# Altium schematic symbol library TPS564242DRLR.SchLib: 2 symbols
Pins are listed as number, name and electrical type; pins without a type are passive.

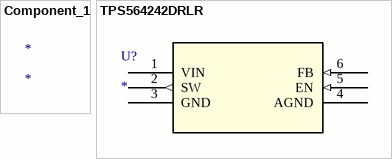
[diagram p0: symbols Component_1 to TPS564242DRLR]

## Component_1
designator *
footprint TPS564242DRLR_TEX

## TPS564242DRLR
designator U?
IC, Buck DC/DC, 4A, PDSO6; Mfr_Name: Texas Instruments; RefDes: RefDes; Type: Type; Supplier 1: Mouser; Supplier Part Number 1: 595-TPS564242DRLR
footprint TPS564242DRLR_TEX
pins: 1 VIN (power), 2 SW (out), 3 GND (power), 4 AGND (power), 5 EN (in), 6 FB (in)